# Altium integrated library 100SP1T1B4M2QE.IntLib: 1 symbol
Pins are listed as number, name and electrical type; pins without a type are passive.

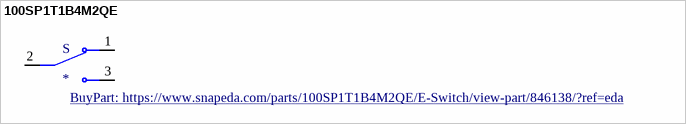
[diagram p0: symbol 100SP1T1B4M2QE]

## 100SP1T1B4M2QE
designator S
Toggle Switch SPDT Through Hole; MF: E-Switch; MP: 100SP1T1B4M2QE; Value: *; Price: None; Package: None; Availability: Unavailable; SnapEDA_Link: https://www.snapeda.com/parts/100SP1T1B4M2QE/E-Switch/view-part/846138/?ref=snap; BuyPart: https://www.snapeda.com/parts/100SP1T1B4M2QE/E-Switch/view-part/846138/?ref=eda
footprint SW_100SP1T1B4M2QE
pins: 1, 2, 3